# Altium footprint library TYPE-C16PIN.PcbLib: 1 footprints
Each footprint in its own frame and in the unit in brackets; x right, y up, seen from the top. Pads: shape width x height; smd on the part's side, far side on the other; paste and mask are expansions set on the pad; w line width, h text height; cw(c..) or ccw(c..) is an arc to the next point about the centre after c.
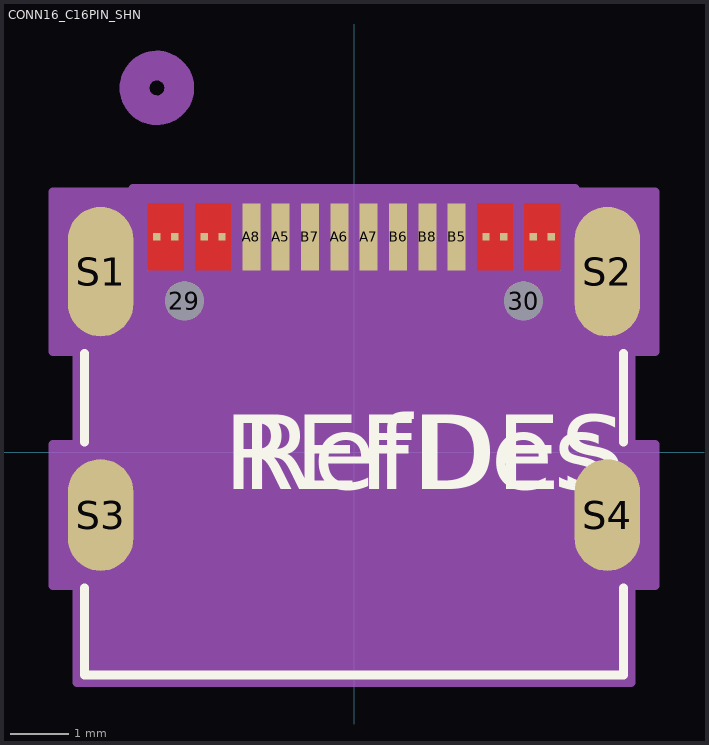
[diagram p0: the footprint, top view; thin cyan lines are the x and y axes]

## CONN16_C16PIN_SHN [mil]
pads (22):
  round 26 / inner round 60 / far side round 26 hole 26 unplated paste+0 mask+0: 29(-113.78,101.55) 30(113.78,101.55)
  rect 5x5 smd paste-2.5 mask-2.5: A1(-132.29,144.5) A4(-100.61,144.5) A9(100.61,144.5) A12(132.29,144.5) B1(120.3,144.5) B4(88.61,144.5) B9(-88.61,144.5) B12(-120.3,144.5)
  rect 12x45 smd paste+0 mask+0: A5(-49.23,144.5) A6(-9.85,144.5) A7(9.85,144.5) A8(-68.92,144.5) B5(68.92,144.5) B6(29.54,144.5) B7(-29.54,144.5) B8(49.23,144.5)
  oval 44x87 / inner round 60 / far side oval 44x87 all layers, no hole paste-43.5 mask+0: S1(-170.08,121.23) S2(170.08,121.23)
  oval 44x75 / inner round 60 / far side oval 44x75 all layers, no hole paste-37.5 mask+0: S3(-170.08,-42.15) S4(170.08,-42.15)
Top Layer:
  region: -114.3,122 -138.29,122 -138.29,167 -114.3,167
  region: -106.61,122 -106.61,167 -82.61,167 -82.61,122
  region: 82.61,167 106.61,167 106.61,122 82.61,122
  region: 114.3,167 138.29,167 138.29,122 114.3,122
Top Overlay:
  lines w6: -181,-91.01 -181,-149.5 181,-149.5 181,-91.01 ; -181,6.7 -181,66.37 ; 181,6.7 181,66.37
  text "REFDES" at -87.5,-25 h50
  text "RefDes" at -75,-25 h50
Top Paste:
  region: -114.3,122 -138.29,122 -138.29,167 -114.3,167
  region: -106.61,122 -106.61,167 -82.61,167 -82.61,122
  region: 82.61,167 106.61,167 106.61,122 82.61,122
  region: 114.3,167 138.29,167 138.29,122 114.3,122
Top Solder:
  region: 114.3,167 138.29,167 138.29,122 114.3,122
  region: -114.3,122 -138.29,122 -138.29,167 -114.3,167
  region: -106.61,122 -106.61,167 -82.61,167 -82.61,122
  region: 82.61,167 106.61,167 106.61,122 82.61,122
Mechanical 13:
  circle w20: c-132.29,244.5 r15
  lines w1: -176,-144.5 176,-144.5 176,144.5 -176,144.5 -176,-144.5
  text "RefDes2" at -87.5,-25 h50
Mechanical 15:
  region: -202.08,-89.65 -186,-89.65 -186,-154.5 186,-154.5 186,-89.65 202.08,-89.65 202.08,5.35 186,5.35 186,67.73 202.08,67.73 202.08,174.73 148.29,174.73 148.29,177 -148.29,177 -148.29,174.73 -202.08,174.73 -202.08,67.73 -186,67.73 -186,5.35 -202.08,5.35
  lines w6: -202.08,-89.65 -186,-89.65 -186,-154.5 186,-154.5 186,-89.65 202.08,-89.65 202.08,5.35 186,5.35 186,67.73 202.08,67.73 202.08,174.73 148.29,174.73 148.29,177 -148.29,177 -148.29,174.73 -202.08,174.73 -202.08,67.73 -186,67.73 -186,5.35 -202.08,5.35 -202.08,-89.65